# Altium footprint library EsteemPCB_SOM_Course_pcblib.PcbLib: 80 footprints (part 2 of 5)
Each footprint in its own frame and in the unit in brackets; x right, y up, seen from the top. Pads: shape width x height; smd on the part's side, far side on the other; paste and mask are expansions set on the pad; w line width, h text height; cw(c..) or ccw(c..) is an arc to the next point about the centre after c.
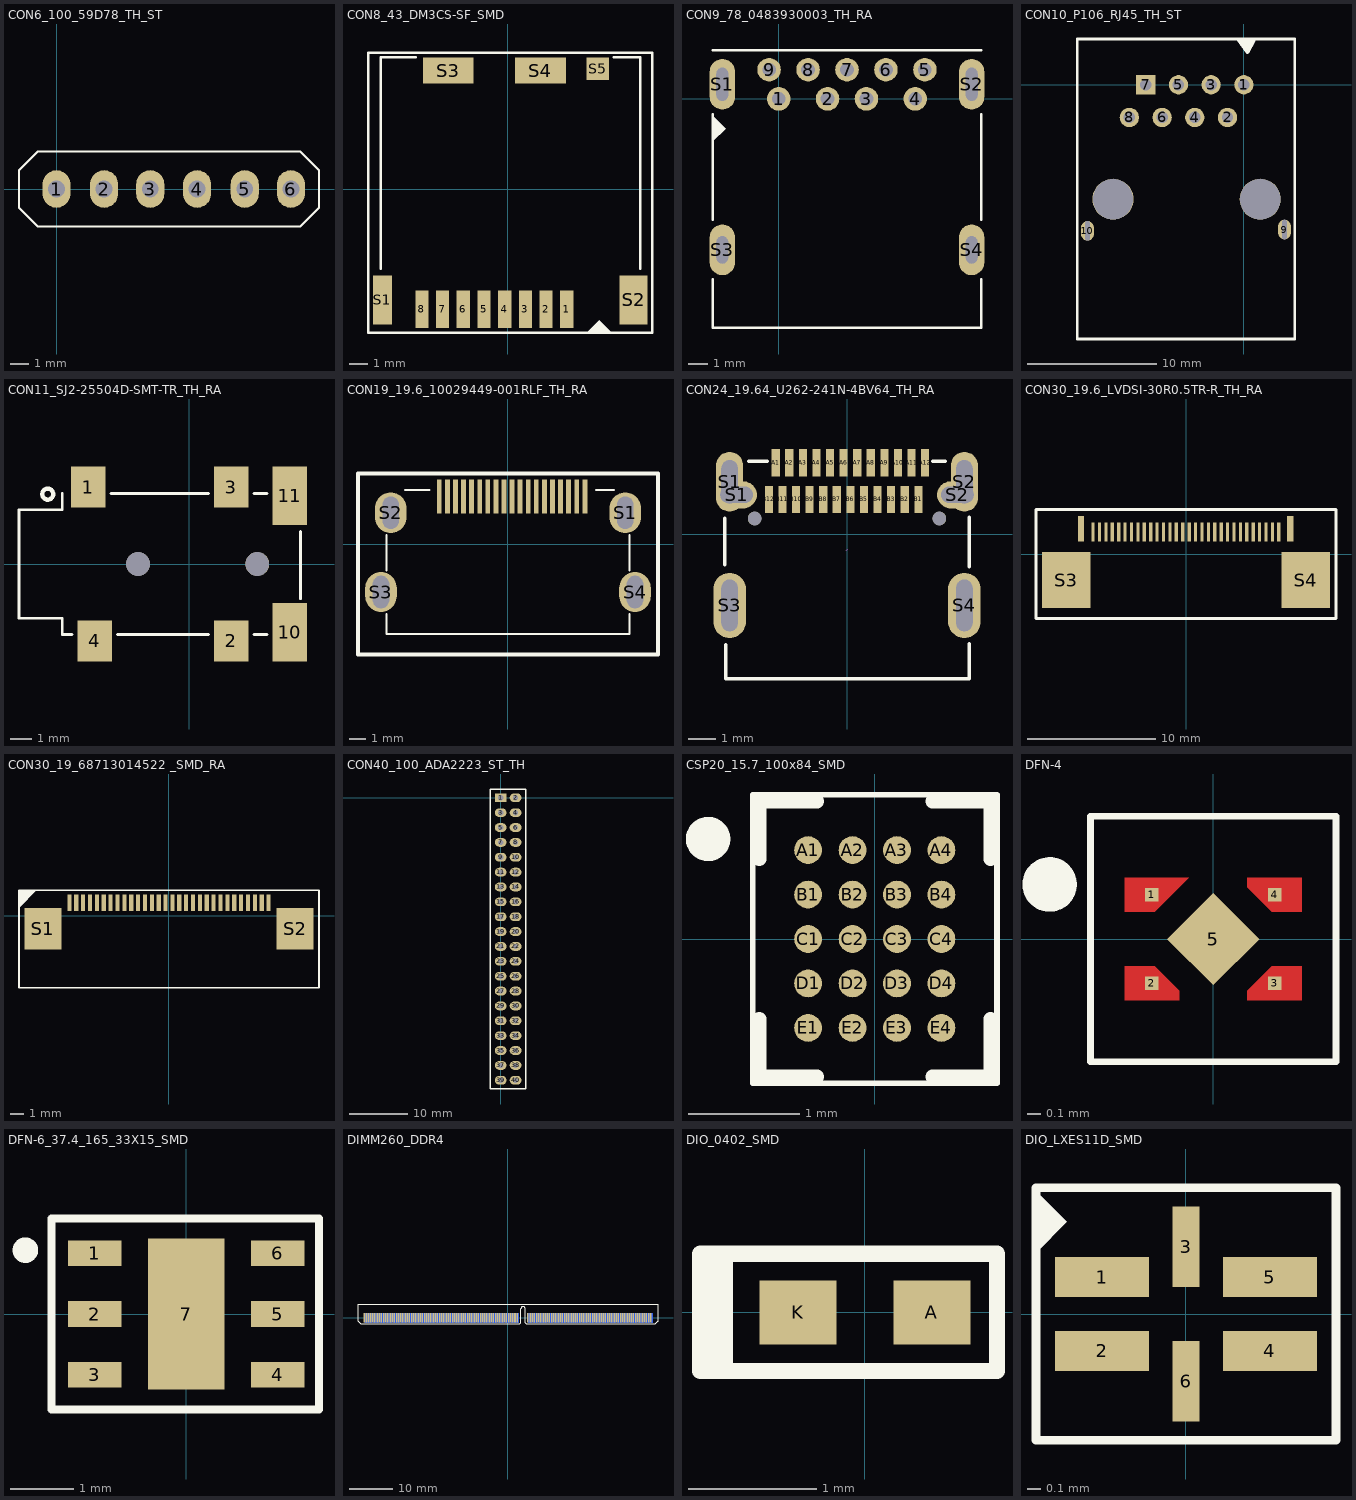
[diagram p1: the footprints below, top view; thin cyan lines are the x and y axes]

## CON6_100_59D78_TH_ST [mm] "Bergstrip"
height 10
pads (6):
  oval 1.5x2 hole 0.9: 1(0,0) 2(2.54,0) 3(5,0) 4(7.5,0) 5(10.04,0) 6(12.5,0)
Top Overlay:
  lines w0.127: -2,-1 -2,1 ; -2,-1 -1,-2 ; -2,-1 -1,-2 ; -2,-1 -2,1 ; -2,1 -1,2 ; -2,1 -1,2 ; -1,-2 11,-2 ; -1,-2 11,-2 ; -1,2 13,2 ; 11,-2 13,-2 14,-1 14,1 13,2 ; 13,2 13,2
3D body "65787.stp": height 8.55, standoff -2.99, extent -1.346,-1.245 13.894,1.295

## CON8_43_DM3CS-SF_SMD [mm] "uSD Card"
pads (13):
  rect 0.7x2 smd: 1(3.125,-6.4) 2(2.025,-6.4) 3(0.925,-6.4) 4(-0.175,-6.4) 5(-1.275,-6.4) 6(-2.375,-6.4) 7(-3.475,-6.4) 8(-4.575,-6.4)
  rect 1x2.6 smd: S1(-6.675,-5.9)
  rect 1.5x2.6 smd: S2(6.675,-5.9)
  rect 2.7x1.4 smd: S3(-3.175,6.3) S4(1.725,6.3)
  rect 1.2x1.2 smd: S5(4.775,6.4)
Top Overlay:
  region: 4.218,-7.619 4.853,-6.984 5.513,-7.645
  lines w0.127: -6.775,-4.25 -6.775,7 -4.901,7 ; 5.625,7 7.025,7 7.025,-4.25 ; -7.425,-7.65 -7.425,7.25 7.675,7.25 7.675,-7.65 -7.425,-7.65
3D body "User Library-DM3CS-SF.step": height 1.98, standoff 0.05, extent -6.755,-6.693 7.045,7.406

## CON9_78_0483930003_TH_RA [mm]
pads (13):
  round 1.208 hole 0.7: 1(0,0) 2(2.5,0) 3(4.5,0) 4(7,0) 5(7.5,1.5) 6(5.5,1.5) 7(3.5,1.5) 8(1.5,1.5) 9(-0.5,1.5)
  oval 1.3x2.6 hole 0.6 slot 1.7 at 90 deg: S1(-2.9,0.75) S2(9.9,0.75)
  oval 1.3x2.6 hole 0.6 slot 1.4 at 90 deg: S3(-2.9,-7.75) S4(9.9,-7.75)
Top Overlay:
  region: -3.409,-0.84 -2.723,-1.526 -3.409,-2.212
  lines w0.127: -3.4,-9.25 -3.4,-11.75 10.4,-11.75 10.4,-9.25 ; -3.4,-6.2 -3.4,-0.8 ; -3.4,2.5 10.4,2.5 ; 10.4,-6.2 10.4,-0.8
3D body "1841902_1932258-1.stp": height 7.77, standoff -3.69, extent -4.525,-13.764 11.575,2.716

## CON10_P106_RJ45_TH_ST [mm] "LAN Connector"
height 13.5
pads (12):
  round 1.5 hole 0.89 paste-1000 mask+0: 1(0,0) 2(-1.27,-2.54) 3(-2.54,0) 4(-3.81,-2.54) 5(-5.08,0) 6(-6.35,-2.54) 8(-8.89,-2.54)
  rect 1.5x1.5 hole 0.89 paste-1000 mask+0: 7(-7.62,0)
  oval 1x1.524 hole 1.5 slot 0.35 at 0 deg: 9(3.155,-11.245) 10(-12.145,-11.345)
  round 3.18 hole 3.12 unplated paste-1000 mask+0: ""(-10.16,-8.89) ""(1.27,-8.89)
Top Overlay:
  region: 0.244,2.587 0.244,2.764 -0.442,3.45 -0.391,3.501 0.802,3.501
  lines w0.2: -12.939,-19.745 -12.939,3.552 3.952,3.552 3.952,-19.745 -12.939,-19.745
  lines w0.254: -0.417,3.476 0.269,2.51 0.813,3.489
3D body "1-406541-5.stp": height 13.04, standoff -4.49, extent -12.673,-12.445 3.583,3.303

## CON11_SJ2-25504D-SMT-TR_TH_RA [mm] "Audio Jack"
height 4.2
pads (8):
  rect 1.6x1.9 smd: 1(-4.65,3.55) 2(1.95,-3.55) 3(1.95,3.55) 4(-4.35,-3.55)
  rect 1.6x2.7 smd: 10(4.65,-3.15) 11(4.65,3.15)
  round 1.1 hole 1.1 unplated: ""(-2.35,0) ""(3.15,0)
Top Overlay:
  circle w0.2: c-6.522,3.226 r0.254
  lines w0.127: -5.85,3.25 -5.85,2.5 -7.85,2.5 -7.85,-2.5 -5.85,-2.5 -5.85,-3.25 -5.4,-3.25 ; -3.6,3.25 0.9,3.25 ; -3.3,-3.25 0.9,-3.25 ; 3,-3.25 3.6,-3.25 ; 3,3.25 3.6,3.25 ; 5.15,-1.6 5.15,1.5
Mechanical 13:
  circle w0.2: c-4.6,4.1 r0.1
3D body "CUI_DEVICES_SJ2-25504D-SMT-TR.step": height 3.81, standoff -0.49, extent -7.714,-4.14 5.286,3.76

## CON19_19.6_10029449-001RLF_TH_RA [mm] "HDMI Connector"
height 4.55
pads (23):
  rect 0.3x2.1 smd: 1(4.75,2.95) 2(4.25,2.95) 3(3.75,2.95) 4(3.25,2.95) 5(2.75,2.95) 6(2.25,2.95) 7(1.75,2.95) 8(1.25,2.95) 9(0.75,2.95) 10(0.25,2.95) 11(-0.25,2.95) 12(-0.75,2.95) 13(-1.25,2.95) 14(-1.75,2.95) 15(-2.25,2.95) 16(-2.75,2.95) 17(-3.25,2.95) 18(-3.75,2.95) 19(-4.25,2.95)
  oval 1.95x2.5 hole 2 slot 1 at 0 deg: S1(7.25,1.95) S2(-7.25,1.95) S3(-7.85,-2.95) S4(7.85,-2.95)
Top Overlay:
  lines w0.127: -7.5,-4.32 -7.5,-5.55 7.5,-5.55 7.5,-4.32 ; -7.5,-1.61 -7.5,0.58 ; -6.35,3.35 -4.85,3.35 ; 5.45,3.35 6.55,3.35 ; 7.5,-1.61 7.5,0.58
  lines w0.254: -9.271,-6.8 9.271,-6.8 9.271,4.363 -9.271,4.363 -9.271,-6.8
3D body "10029449-001lf.stp": height 5.91, standoff -2.09, extent -8.125,-6.502 8.075,2.648

## CON24_19.64_U262-241N-4BV64_TH_RA [mm] "Type C Connector"
height 2.56
pads (32):
  rect 0.3x1 smd mask+0.076: A1(-2.625,2.625) A2(-2.125,2.625) A3(-1.625,2.625) A4(-1.125,2.625) A5(-0.625,2.625) A6(-0.125,2.625) A7(0.375,2.625) A8(0.875,2.625) A9(1.375,2.625) A10(1.875,2.625) A11(2.375,2.625) A12(2.875,2.625) B1(2.625,1.275) B2(2.125,1.275) B3(1.625,1.275) B4(1.125,1.275) B5(0.625,1.275) B6(0.125,1.275) B7(-0.375,1.275) B8(-0.875,1.275) B9(-1.375,1.275) B10(-1.875,1.275) B11(-2.375,1.275) B12(-2.875,1.275)
  oval 1x2.199 hole 0.6 slot 1.6 at 90 deg: S1(-4.32,1.925) S2(4.32,1.925)
  oval 1.499x1 hole 0.6 slot 1.2 at 0 deg: S1(-4.064,1.445) S2(4.064,1.445)
  oval 1.2x2.4 hole 0.6 slot 1.9 at 90 deg: S3(-4.32,-2.625) S4(4.32,-2.625)
  round 0.5 hole 0.5 unplated: ""(-3.4,0.575) ""(3.4,0.575)
Top Overlay:
  lines w0.127: -4.5,-1.123 -4.5,0.586 ; -4.469,-4.064 -4.469,-5.325 4.5,-5.325 4.5,-4.038 ; -3.622,2.675 -2.926,2.675 ; 3.148,2.675 3.614,2.675 ; 4.5,-1.202 4.5,0.613
Mechanical 15:
  lines w0.003: -0.025,-0.6 0.025,-0.549
3D body "2129691-1.stp": height 3.35, standoff 0.01, extent -6.057,-7.103 6.293,3.597

## CON30_19.6_LVDSI-30R0.5TR-R_TH_RA [mm] "EDP Connector"
height 1
pads (34):
  rect 0.25x1.5 smd: 1(-7.254,1.758) 2(-6.754,1.758) 3(-6.254,1.758) 4(-5.754,1.758) 5(-5.254,1.758) 6(-4.754,1.758) 7(-4.254,1.758) 8(-3.754,1.758) 9(-3.254,1.758) 10(-2.754,1.758) 11(-2.254,1.758) 12(-1.754,1.758) 13(-1.254,1.758) 14(-0.754,1.758) 15(-0.254,1.758) 16(0.246,1.758) 17(0.746,1.758) 18(1.246,1.758) 19(1.746,1.758) 20(2.246,1.758) 21(2.746,1.758) 22(3.246,1.758) 23(3.746,1.758) 24(4.246,1.758) 25(4.746,1.758) 26(5.246,1.758) 27(5.746,1.758) 28(6.246,1.758) 29(6.746,1.758) 30(7.246,1.758)
  rect 0.5x2 smd: S1(-8.194,2.012) S2(8.146,2.012)
  rect 3.8x4.38 smd: S3(-9.354,-2.012) S4(9.354,-2.012)
Top Overlay:
  lines w0.254: -11.709,-5 -11.709,3.5 11.709,3.5 11.709,-5 -11.5,-5 -11.709,-5
3D body "FH12-30S-0.5SH(55)--3DModel-STEP-56544.STEP": height 2.09, standoff -0.01, extent -9.581,-4.295 9.519,2.105

## CON30_19_68713014522 _SMD_RA [mm] "30 PIN FPC Connector"
height 2.05
pads (32):
  rect 0.3x1.2 smd: 1(-7.25,0.95) 2(-6.75,0.95) 3(-6.25,0.95) 4(-5.75,0.95) 5(-5.25,0.95) 6(-4.75,0.95) 7(-4.25,0.95) 8(-3.75,0.95) 9(-3.25,0.95) 10(-2.75,0.95) 11(-2.25,0.95) 12(-1.75,0.95) 13(-1.25,0.95) 14(-0.75,0.95) 15(-0.25,0.95) 16(0.25,0.95) 17(0.75,0.95) 18(1.25,0.95) 19(1.75,0.95) 20(2.25,0.95) 21(2.75,0.95) 22(3.25,0.95) 23(3.75,0.95) 24(4.25,0.95) 25(4.75,0.95) 26(5.25,0.95) 27(5.75,0.95) 28(6.25,0.95) 29(6.75,0.95) 30(7.25,0.95)
  rect 2.7x3 smd: S1(-9.18,-0.95) S2(9.18,-0.95)
Top Overlay:
  region: -10.922,1.844 -9.652,1.844 -10.922,0.574
  lines w0.127: -10.922,-5.245 10.922,-5.245 10.922,1.844 -10.922,1.844 -10.922,-5.245
3D body "FH12-30S-0.5SH(55)--3DModel-STEP-56544.STEP": height 2.09, standoff -0.01, extent -9.581,-5.245 9.519,1.155

## CON40_100_ADA2223_ST_TH [mm]
height 11.1
pads (40):
  rect 2x1.5 hole 0.9: 1(0,0)
  oval 2x1.5 hole 0.9: 2(2.54,0) 3(0,-2.54) 4(2.54,-2.54) 5(0,-5.08) 6(2.54,-5.08) 7(0,-7.62) 8(2.54,-7.62) 9(0,-10.16) 10(2.54,-10.16) 11(0,-12.7) 12(2.54,-12.7) 13(0,-15.24) 14(2.54,-15.24) 15(0,-17.78) 16(2.54,-17.78) 17(0,-20.32) 18(2.54,-20.32) 19(0,-22.86) 20(2.54,-22.86) 21(0,-25.4) 22(2.54,-25.4) 23(0,-27.94) 24(2.54,-27.94) 25(0,-30.48) 26(2.54,-30.48) 27(0,-33.02) 28(2.54,-33.02) 29(0,-35.56) 30(2.54,-35.56) 31(0,-38.1) 32(2.54,-38.1) 33(0,-40.64) 34(2.54,-40.64) 35(0,-43.18) 36(2.54,-43.18) 37(0,-45.72) 38(2.54,-45.72) 39(0,-48.26) 40(2.54,-48.26)
Top Overlay:
  lines w0.254: -1.75,-49.75 -1.75,1.5 4.25,1.5 4.25,-49.75 -1.75,-49.75
3D body "User Library-Header 2x20 2_54mm.step": height 2.01, standoff -9.09, extent -1.25,-49.55 3.75,1.55

## CSP20_15.7_100x84_SMD [mm] "CSP Package"
height 0.56
pads (20):
  round 0.25 smd mask+0.076: A1(-0.6,0.8) A2(-0.2,0.8) A3(0.2,0.8) A4(0.6,0.8) B1(-0.6,0.4) B2(-0.2,0.4) B3(0.2,0.4) B4(0.6,0.4) C1(-0.6,0) C2(-0.2,0) C3(0.2,0) C4(0.6,0) D1(-0.6,-0.4) D2(-0.2,-0.4) D3(0.2,-0.4) D4(0.6,-0.4) E1(-0.6,-0.8) E2(-0.2,-0.8) E3(0.2,-0.8) E4(0.6,-0.8)
Top Overlay:
  circle w0.2: c-1.5,0.9 r0.1
  lines w0.05: -1.1,-1.3 -1.1,1.3 1.1,1.3 1.1,-1.3 -1.1,-1.3
  lines w0.127: -1.04,-0.72 -1.04,-1.24 -0.52,-1.24 ; -1.04,0.72 -1.04,1.24 -0.52,1.24 ; 0.52,-1.24 1.04,-1.24 1.04,-0.72 ; 0.52,1.24 1.04,1.24 1.04,0.72
3D body: height 0.56, standoff 0.08, extent -1.118,-1.321 1.118,1.321

## DFN-4 [mm] "DFN Package"
pads (5):
  rect 0.1x0.1 smd paste-1 mask+0: 1(-0.45,0.325) 2(-0.45,-0.325) 3(0.45,-0.325) 4(0.45,0.325)
  rect 0.48x0.48 smd rot 45: 5(0,0)
Top Layer:
  region: 0.65,0.2 0.43,0.2 0.25,0.38 0.25,0.45 0.65,0.45
  region: 0.65,-0.45 0.25,-0.45 0.25,-0.38 0.43,-0.2 0.65,-0.2
  region: -0.25,-0.38 -0.25,-0.45 -0.65,-0.45 -0.65,-0.2 -0.43,-0.2
  region: -0.43,0.2 -0.65,0.2 -0.65,0.45 -0.18,0.45
Top Overlay:
  circle w0.2: c-1.2,0.4 r0.1
  lines w0.05: -0.9,-0.9 -0.9,0.9 0.9,0.9 0.9,-0.9 -0.9,-0.9
Top Paste:
  region: 0.65,0.2 0.43,0.2 0.25,0.38 0.25,0.45 0.65,0.45
  region: 0.65,-0.45 0.25,-0.45 0.25,-0.38 0.43,-0.2 0.65,-0.2
  region: -0.25,-0.38 -0.25,-0.45 -0.65,-0.45 -0.65,-0.2 -0.43,-0.2
  region: -0.43,0.2 -0.65,0.2 -0.65,0.45 -0.18,0.45
Top Solder:
  region: 0.75,0.1 0.38,0.1 0.15,0.33 0.15,0.55 0.75,0.55
  region: 0.75,-0.55 0.15,-0.55 0.15,-0.33 0.38,-0.1 0.75,-0.1
  region: -0.15,-0.33 -0.15,-0.55 -0.75,-0.55 -0.75,-0.1 -0.38,-0.1
  region: -0.38,0.1 -0.75,0.1 -0.75,0.55 0.07,0.55
3D body "User Library-DFN4-1216-0.step": height 0.5, standoff 0, extent -0.8,-0.6 0.8,0.6

## DFN-6_37.4_165_33X15_SMD [mm] "DFN Package"
height 0.6
pads (7):
  rect 0.84x0.4 smd mask+0.076: 1(-1.435,0.95) 2(-1.435,0) 3(-1.435,-0.95) 4(1.435,-0.95) 5(1.435,0) 6(1.435,0.95)
  rect 1.2x2.365 smd mask+0.076: 7(0,0)
Top Overlay:
  circle w0.2: c-2.52,1 r0.1
  lines w0.127: 1.435,1.5 2.081,1.5 2.083,1.499 2.083,-1.499 2.081,-1.5 1.5,-1.5 -1.5,-1.5 -2.108,-1.5 -2.108,1.5 -1.5,1.5 1.5,1.5
Top Paste:
  region: -0.57,0.83 0.57,0.83 0.57,-0.83 -0.57,-0.83
3D body "User Library-DFN6-3x3x0_80.step": height 0.85, standoff 0.05, extent -1.5,-1.5 1.5,1.5

## DIMM260_DDR4 [mm] "Dimm Module"
pads (260):
  rect 0.35x2.25 smd paste-0.75 mask+0.076: 1(-33.375,0) 3(-32.875,0) 5(-32.375,0) 7(-31.875,0) 9(-31.375,0) 11(-30.875,0) 13(-30.375,0) 15(-29.875,0) 17(-29.375,0) 19(-28.875,0) 21(-28.375,0) 23(-27.875,0) 25(-27.375,0) 27(-26.875,0) 29(-26.375,0) 31(-25.875,0) 33(-25.375,0) 35(-24.875,0) 37(-24.375,0) 39(-23.875,0) 41(-23.375,0) 43(-22.875,0) 45(-22.375,0) 47(-21.875,0) 49(-21.375,0) 51(-20.875,0) 53(-20.375,0) 55(-19.875,0) 57(-19.375,0) 59(-18.875,0) 61(-18.375,0) 63(-17.875,0) 65(-17.375,0) 67(-16.875,0) 69(-16.375,0) 71(-15.875,0) 73(-15.375,0) 75(-14.875,0) 77(-14.375,0) 79(-13.875,0) 81(-13.375,0) 83(-12.875,0) 85(-12.375,0) 87(-11.875,0) 89(-11.375,0) 91(-10.875,0) 93(-10.375,0) 95(-9.875,0) 97(-9.375,0) 99(-8.875,0) 101(-8.375,0) 103(-7.875,0) 105(-7.375,0) 107(-6.875,0) 109(-6.375,0) 111(-5.875,0) 113(-5.375,0) 115(-4.875,0) 117(-4.375,0) 119(-3.875,0) 121(-3.375,0) 123(-2.875,0) 125(-2.375,0) 127(-1.875,0) 129(-1.375,0) 131(-0.875,0) 133(-0.375,0) 135(0.125,0) 137(0.625,0) 139(1.125,0) 141(1.625,0) 143(2.125,0) 145(4.625,0) 147(5.125,0) 149(5.625,0) 151(6.125,0) 153(6.625,0) 155(7.125,0) 157(7.625,0) 159(8.125,0) 161(8.625,0) 163(9.125,0) 165(9.625,0) 167(10.125,0) 169(10.625,0) 171(11.125,0) 173(11.625,0) 175(12.125,0) 177(12.625,0) 179(13.125,0) 181(13.625,0) 183(14.125,0) 185(14.625,0) 187(15.125,0) 189(15.625,0) 191(16.125,0) 193(16.625,0) 195(17.125,0) 197(17.625,0) 199(18.125,0) 201(18.625,0) 203(19.125,0) 205(19.625,0) 207(20.125,0) 209(20.625,0) 211(21.125,0) 213(21.625,0) 215(22.125,0) 217(22.625,0) 219(23.125,0) 221(23.625,0) 223(24.125,0) 225(24.625,0) 227(25.125,0) 229(25.625,0) 231(26.125,0) 233(26.625,0) 235(27.125,0) 237(27.625,0) 239(28.125,0) 241(28.625,0) 243(29.125,0) 245(29.625,0) 247(30.125,0) 249(30.625,0) 251(31.125,0) 253(31.625,0) 255(32.125,0) 257(32.625,0) 259(33.125,0)
  rect 0.35x2.25 smd far side paste-0.75 mask+0.3: 2(-33.125,0) 4(-32.625,0) 6(-32.125,0) 8(-31.625,0) 10(-31.125,0) 12(-30.625,0) 14(-30.125,0) 16(-29.625,0) 18(-29.125,0) 20(-28.625,0) 22(-28.125,0) 24(-27.625,0) 26(-27.125,0) 28(-26.625,0) 30(-26.125,0) 32(-25.625,0) 34(-25.125,0) 36(-24.625,0) 38(-24.125,0) 40(-23.625,0) 42(-23.125,0) 44(-22.625,0) 46(-22.125,0) 48(-21.625,0) 50(-21.125,0) 52(-20.625,0) 54(-20.125,0) 56(-19.625,0) 58(-19.125,0) 60(-18.625,0) 62(-18.125,0) 64(-17.625,0) 66(-17.125,0) 68(-16.625,0) 70(-16.125,0) 72(-15.625,0) 74(-15.125,0) 76(-14.625,0) 78(-14.125,0) 80(-13.625,0) 82(-13.125,0) 84(-12.625,0) 86(-12.125,0) 88(-11.625,0) 90(-11.125,0) 92(-10.625,0) 94(-10.125,0) 96(-9.625,0) 98(-9.125,0) 100(-8.625,0) 102(-8.125,0) 104(-7.625,0) 106(-7.125,0) 108(-6.625,0) 110(-6.125,0) 112(-5.625,0) 114(-5.125,0) 116(-4.625,0) 118(-4.125,0) 120(-3.625,0) 122(-3.125,0) 124(-2.625,0) 126(-2.125,0) 128(-1.625,0) 130(-1.125,0) 132(-0.625,0) 134(-0.125,0) 136(0.375,0) 138(0.875,0) 140(1.375,0) 142(1.875,0) 144(2.375,0) 146(4.875,0) 148(5.375,0) 150(5.875,0) 152(6.375,0) 154(6.875,0) 156(7.375,0) 158(7.875,0) 160(8.375,0) 162(8.875,0) 164(9.375,0) 166(9.875,0) 168(10.375,0) 170(10.875,0) 172(11.375,0) 174(11.875,0) 176(12.375,0) 178(12.875,0) 180(13.375,0) 182(13.875,0) 184(14.375,0) 186(14.875,0) 188(15.375,0) 190(15.875,0) 192(16.375,0) 194(16.875,0) 196(17.375,0) 198(17.875,0) 200(18.375,0) 202(18.875,0) 204(19.375,0) 206(19.875,0) 208(20.375,0) 210(20.875,0) 212(21.375,0) 214(21.875,0) 216(22.375,0) 218(22.875,0) 220(23.375,0) 222(23.875,0) 224(24.375,0) 226(24.875,0) 228(25.375,0) 230(25.875,0) 232(26.375,0) 234(26.875,0) 236(27.375,0) 238(27.875,0) 240(28.375,0) 242(28.875,0) 244(29.375,0) 246(29.875,0) 248(30.375,0) 250(30.875,0) 252(31.375,0) 254(31.875,0) 256(32.375,0) 258(32.875,0) 260(33.375,0)
Top Layer:
  text "1" at -33.586,2.372 h0.64
Top Overlay:
  lines w0.127: -34.813,-0.765 -34.809,-0.774 -34.209,-1.374 -34.2,-1.378 2.75,-1.378 2.759,-1.374 3.009,-1.124 3.013,-1.115 3.013,2.135 cw(c3.5,2.135) 3.987,2.135 3.987,-1.115 3.991,-1.124 4.241,-1.374 4.25,-1.378 34.2,-1.378 34.209,-1.374 34.809,-0.774 34.813,-0.765 34.813,3.181 -34.813,3.181 -34.813,-0.763

## DIO_0402_SMD [mm] "Diode"
height 0.45
pads (2):
  rect 0.6x0.5 smd: A(0.521,0) K(-0.521,0)
Top Overlay:
  rectangle: -1.308,-0.483 -1.029,0.457
  lines w0.127: -1.283,-0.457 -1.283,0.457 1.029,0.457 1.029,-0.457 -1.283,-0.457
3D body: height 0.36, standoff 0.1, extent 0.413,-0.254 0.641,0.254
3D body: height 0.33, standoff 0.1, extent -0.349,-0.203 0.667,0.203
3D body: height 0.33, standoff 0.1, extent -0.667,-0.254 -0.438,0.254
3D body: height 0.3, standoff 0.1, extent -0.641,-0.241 0.514,0.241

## DIO_LXES11D_SMD [mm] "TVS Diode"
height 0.47
pads (6):
  rect 0.7x0.3 smd mask+0.076: 1(-0.625,0.275) 2(-0.625,-0.275) 4(0.625,-0.275) 5(0.625,0.275)
  rect 0.2x0.6 smd mask+0.076: 3(0,0.5) 6(0,-0.5)
Top Overlay:
  region: -1.118,0.914 -0.889,0.686 -1.118,0.457
  lines w0.064: -1.118,-0.94 -1.118,0.94 1.118,0.94 1.118,-0.94 -1.118,-0.94
3D body "LXES11DAA2-135.stp": height 0.95, standoff 0, extent -0.845,-0.68 0.845,0.68